# Altium footprint library so.PcbLib: 8 footprints
Each footprint in its own frame and in the unit in brackets; x right, y up, seen from the top. Pads: shape width x height; smd on the part's side, far side on the other; paste and mask are expansions set on the pad; w line width, h text height; cw(c..) or ccw(c..) is an arc to the next point about the centre after c.
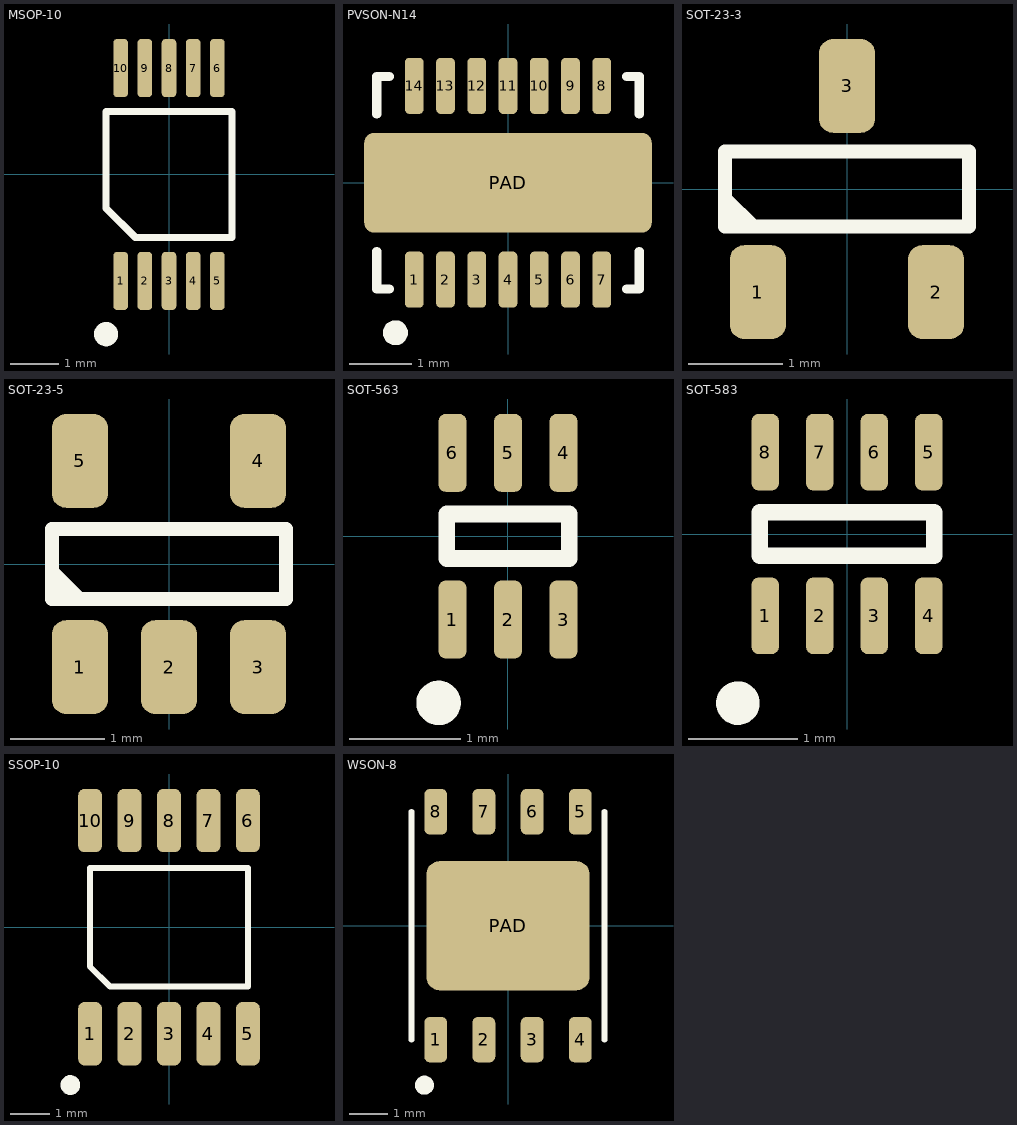
[diagram p0: the footprints below, top view; thin cyan lines are the x and y axes]

## MSOP-10 [mm]
height 1.1
pads (10):
  rrect50% 0.3x1.2 smd paste-1: 1(-1,-2.2) 2(-0.5,-2.2) 3(0,-2.2) 4(0.5,-2.2) 5(1,-2.2) 6(1,2.2) 7(0.5,2.2) 8(0,2.2) 9(-0.5,2.2) 10(-1,2.2)
Top Overlay:
  circle w0.3: c-1.3,-3.3 r0.1
  lines w0.15: -1.3,-0.7 -1.3,1.3 1.3,1.3 1.3,-1.3 0.9,-1.3 -0.7,-1.3 -1.3,-0.7
3D body "User Library-msop-10.step": height 1.15, standoff 0, extent -1.5,-2.45 1.5,2.45

## PVSON-N14 [mm]
height 1
pads (15):
  rrect50% 0.3x0.9 smd paste-1: 1(-1.5,-1.55) 2(-1,-1.55) 3(-0.5,-1.55) 4(0,-1.55) 5(0.5,-1.55) 6(1,-1.55) 7(1.5,-1.55) 8(1.5,1.55) 9(1,1.55) 10(0.5,1.55) 11(0,1.55) 12(-0.5,1.55) 13(-1,1.55) 14(-1.5,1.55)
  rrect20% 4.6x1.6 smd paste-1: PAD(0,0)
Top Overlay:
  circle w0.2: c-1.8,-2.4 r0.1
  lines w0.15: -2.1,-1.1 -2.1,-1.7 -1.9,-1.7 ; -2.1,1.1 -2.1,1.7 -1.9,1.7 ; 1.9,-1.7 2.1,-1.7 2.1,-1.1 ; 1.9,1.7 2.1,1.7 2.1,1.1
3D body "User Library-PVSON-14.step": height 0.98, standoff -0.02, extent -2.02,-1.52 2.02,1.52

## SOT-23-3 [mm]
height 1.1
pads (3):
  rrect50% 0.6x1 smd: 1(-0.95,-1.1) 2(0.95,-1.1) 3(0,1.1)
Top Overlay:
  region: -1.3,0 -1.3,-0.4 -0.9,-0.4
  lines w0.15: -1.3,-0.4 1.3,-0.4 1.3,0.4 -1.3,0.4 -1.3,-0.4
3D body "User Library-sot-3p290x130ll237h100.step": height 1, standoff 0, extent -1.45,-1.185 1.45,1.185

## SOT-23-5 [mm]
pads (5):
  rrect50% 0.6x1 smd: 1(-0.95,-1.1) 2(0,-1.1) 3(0.95,-1.1) 4(0.95,1.1) 5(-0.95,1.1)
Top Overlay:
  region: -1.25,0.025 -1.25,-0.375 -0.85,-0.375
  lines w0.15: -1.25,-0.375 -1.25,0.375 1.25,0.375 1.25,-0.375 -1.25,-0.375
3D body "User Library-SOT23-5-2.step": height 1.45, standoff 0, extent -1.45,-1.4 1.45,1.4

## SOT-563 [mm]
pads (6):
  rrect50% 0.25x0.7 smd: 1(-0.5,-0.75) 2(0,-0.75) 3(0.5,-0.75) 4(0.5,0.75) 5(0,0.75) 6(-0.5,0.75)
Top Overlay:
  circle w0.2: c-0.625,-1.5 r0.1
  lines w0.15: -0.55,-0.2 0.55,-0.2 0.55,0.2 -0.55,0.2 -0.55,-0.2
3D body "User Library-SOT-563.step": height 0.58, standoff 0, extent -0.8,-0.813 0.8,0.813

## SOT-583 [mm]
pads (8):
  rrect50% 0.25x0.7 smd: 1(-0.75,-0.75) 2(-0.25,-0.75) 3(0.25,-0.75) 4(0.75,-0.75) 5(0.75,0.75) 6(0.25,0.75) 7(-0.25,0.75) 8(-0.75,0.75)
Top Overlay:
  circle w0.2: c-1,-1.55 r0.1
  lines w0.15: -0.8,-0.2 0.8,-0.2 0.8,0.2 -0.8,0.2 -0.8,-0.2
3D body "DRL0008A.stp": height 0.6, standoff 0, extent -1.05,-0.8 1.05,0.8

## SSOP-10 [mm]
height 1.75
pads (10):
  rrect50% 0.6x1.6 smd paste-1: 1(-2,-2.7) 2(-1,-2.7) 3(0,-2.7) 4(1,-2.7) 5(2,-2.7) 6(2,2.7) 7(1,2.7) 8(0,2.7) 9(-1,2.7) 10(-2,2.7)
Top Overlay:
  circle w0.3: c-2.5,-4 r0.1
  lines w0.15: -2,-1 -2,1.5 2,1.5 2,-1.5 -1.5,-1.5 -2,-1
3D body "User Library-ssop10.step": height 1.55, standoff -0.01, extent -2.45,-3 2.45,3

## WSON-8 [mm] "WSON-8, 6.0 x 5.0 x 0.8"
height 0.8
pads (9):
  rrect50% 0.6x1.2 smd: 1(-1.905,-3) 2(-0.635,-3) 3(0.635,-3) 4(1.905,-3) 5(1.905,3) 6(0.635,3) 7(-0.635,3) 8(-1.905,3)
  rrect20% 4.3x3.4 smd paste-2: PAD(0,0)
Top Overlay:
  circle w0.3: c-2.2,-4.2 r0.1
  lines w0.15: -2.54,-3 -2.54,3 ; 2.54,-3 2.54,3
Top Paste:
  region: 1.8,-1.6 1.86,-1.6 1.97,-1.554 2.054,-1.47 2.1,-1.36 2.1,-1.3 2.1,-0.5 2.1,-0.44 2.054,-0.33 1.97,-0.246 1.86,-0.2 1.8,-0.2 0.5,-0.2 0.44,-0.2 0.33,-0.246 0.246,-0.33 0.2,-0.44 0.2,-0.5 0.2,-1.3 0.2,-1.36 0.246,-1.47 0.33,-1.554 0.44,-1.6 0.5,-1.6
  region: -1.8,-1.6 -1.86,-1.6 -1.97,-1.554 -2.054,-1.47 -2.1,-1.36 -2.1,-1.3 -2.1,-0.5 -2.1,-0.44 -2.054,-0.33 -1.97,-0.246 -1.86,-0.2 -1.8,-0.2 -0.5,-0.2 -0.44,-0.2 -0.33,-0.246 -0.246,-0.33 -0.2,-0.44 -0.2,-0.5 -0.2,-1.3 -0.2,-1.36 -0.246,-1.47 -0.33,-1.554 -0.44,-1.6 -0.5,-1.6
  region: -1.8,1.6 -1.86,1.6 -1.97,1.554 -2.054,1.47 -2.1,1.36 -2.1,1.3 -2.1,0.5 -2.1,0.44 -2.054,0.33 -1.97,0.246 -1.86,0.2 -1.8,0.2 -0.5,0.2 -0.44,0.2 -0.33,0.246 -0.246,0.33 -0.2,0.44 -0.2,0.5 -0.2,1.3 -0.2,1.36 -0.246,1.47 -0.33,1.554 -0.44,1.6 -0.5,1.6
  region: 1.8,1.6 1.86,1.6 1.97,1.554 2.054,1.47 2.1,1.36 2.1,1.3 2.1,0.5 2.1,0.44 2.054,0.33 1.97,0.246 1.86,0.2 1.8,0.2 0.5,0.2 0.44,0.2 0.33,0.246 0.246,0.33 0.2,0.44 0.2,0.5 0.2,1.3 0.2,1.36 0.246,1.47 0.33,1.554 0.44,1.6 0.5,1.6
3D body "User Library-8 WSON.step": height 0.7, standoff -0.05, extent -2.5,-3 2.5,3